# EAGLE library part MCP2561 (library SW_Communications)
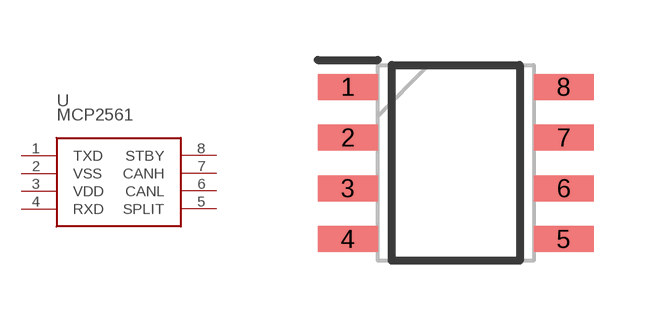
[diagram p8: symbol with the pads of SOIC-8; footprint SOIC-8]

Designator prefix U

## MCP2561 (CATEGORY: Communications; DESCRIPTION: CAN Transceiver 1Mbps 5V 125degC SOIC8 Microchip MCP2561-E/SN, CAN Transceiver 1MBps 1-channel IEC 61000-4-2, 8-Pin SOIC; MFGS: Microchip Technology; MPNS: MCP2561-E/SN; PACKAGE: SOIC-8; PART_NUMBER: MCP2561-E/SN; SW_PART_NUMBER: SW0000867)  [SOIC-8]
1  TXD
2  VSS
3  VDD
4  RXD
5  SPLIT
6  CANL
7  CANH
8  STBY

## Footprint SOIC-8 (pad centres in mm)
SOIC-N
smd 1.5 x 0.65: 1 -2.7,1.905; 2 -2.7,0.635; 3 -2.7,-0.635; 4 -2.7,-1.905; 5 2.7,-1.905; 6 2.7,-0.635; 7 2.7,0.635; 8 2.7,1.905